# Altium footprint library BB-HEADER-P20-P38.PcbLib: 1 footprints
Each footprint in its own frame and in the unit in brackets; x right, y up, seen from the top. Pads: shape width x height; smd on the part's side, far side on the other; paste and mask are expansions set on the pad; w line width, h text height; cw(c..) or ccw(c..) is an arc to the next point about the centre after c.
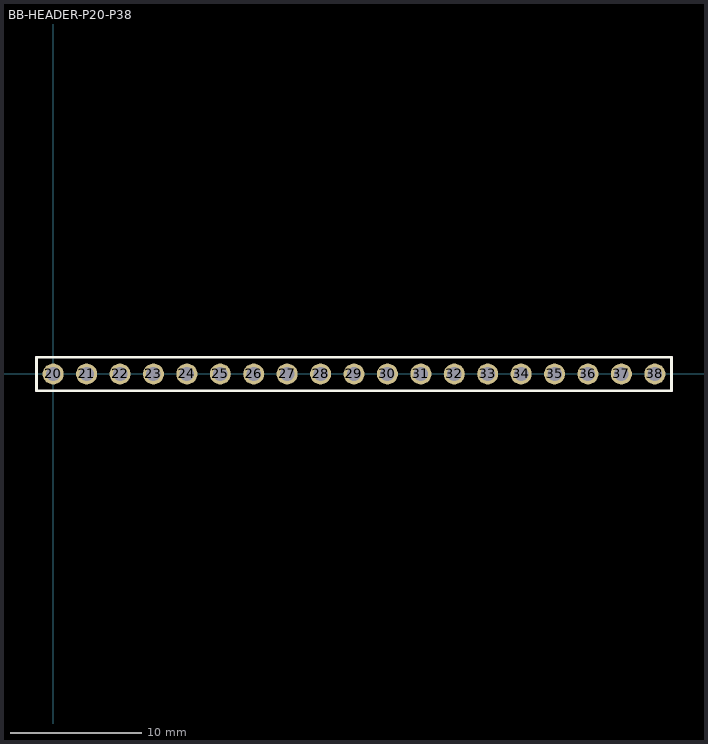
[diagram p0: the footprint, top view; thin cyan lines are the x and y axes]

## BB-HEADER-P20-P38 [mm] "BB Header, Vertical, Male, 0.1\", 2.54mm, P20-P38"
height 11.6
pads (19):
  round 1.6 hole 1.1: 20(0,0) 21(2.54,0) 22(5.08,0) 23(7.62,0) 24(10.16,0) 25(12.7,0) 26(15.24,0) 27(17.78,0) 28(20.32,0) 29(22.86,0) 30(25.4,0) 31(27.94,0) 32(30.48,0) 33(33.02,0) 34(35.56,0) 35(38.1,0) 36(40.64,0) 37(43.18,0) 38(45.72,0)
Top Overlay:
  lines w0.2: -1.27,-1.27 46.99,-1.27 46.99,1.27 0.635,1.27 -1.27,1.27 -1.27,-1.27
Mechanical 13:
  lines w0.1: -1.27,-1.27 46.99,-1.27 46.99,1.27 -1.27,1.27 -1.27,-1.27
Mechanical 15:
  lines w0.1: -1.32,-1.32 -1.32,1.32 47.04,1.32 47.04,-1.32 -1.32,-1.32
3D body: height 8.57, standoff -2.97, extent 44.45,-1.27 46.99,1.27
3D body: height 8.54, standoff -3, extent -1.27,-1.27 44.45,1.27